# Altium schematic symbol library AHMET_CAN_KARACAN.SchLib: 94 symbols (part 2 of 3)
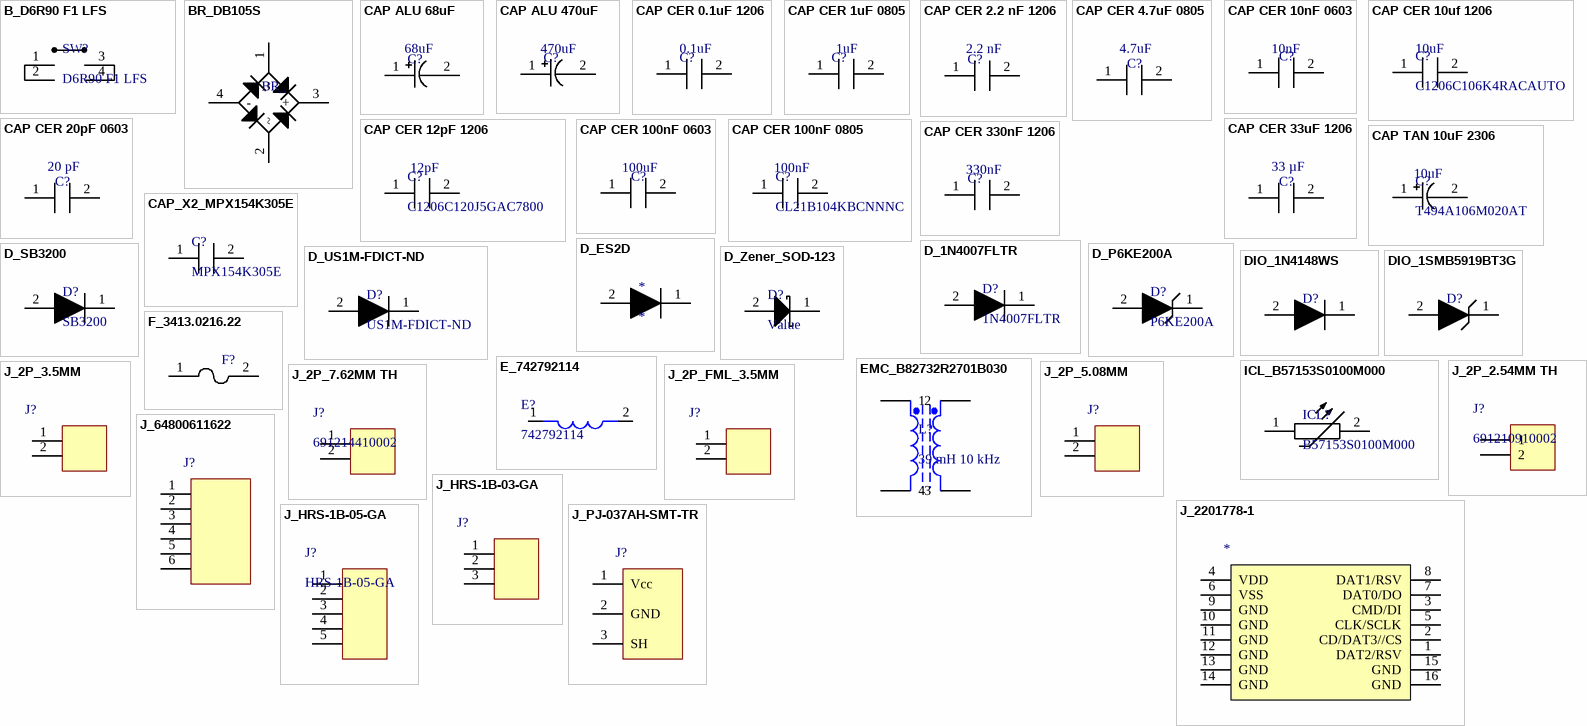
[diagram p3: symbols B_D6R90 F1 LFS to J_PJ-037AH-SMT-TR]

## J_2201778-1
designator *, comment 2201778-1  (value not drawn)
Conn Memory Card RCP 8 POS 1.1mm Solder RA SMD 0.5A/Contact T/R; Manufacturer: TE Connectivity; Underplate Material: Nickel; Number of Positions: 8; Shielding: Unshielded; Contact Current Rating: 500mA; Circuit Application: Signal; Pitch: 0.04inch; Designed By: Ahmet Can; Supplier: Digi-Key; Supplier Part Number: A118117CT-ND; Manufacturer Part Number: 2201778-1; RoHS: Yes; Category: Memory Connectors; Stock: 6669; Pricing: 1=2,81, 10=2,503, 25=2,49, 50=2,4646, 100=2,2614, 250=2,24864, 500=2,04538 (USD); Mounting Technology: Surface Mount; Contact Material: Copper Alloy; Contact Plating: Gold; Housing Color: Black; Color: Black; Housing Material: Polymer; Shell Material: Copper Alloy; Min Operating Temperature: -30°C; Max Operating Temperature: 85°C; Packaging: Tape and Reel; Number of Rows: 1; Series: -; Termination: SMD/SMT; Flammability Rating: UL94 V-0; RoHS Compliant: Yes; Lead Free: Lead Free; ELV: Compliant; Reach SVHC Compliant: Unknown; ComponentLink1URL: https://datasheet.ciiva.com/23834/1737844-23834387.pdf?src-supplier=Newark; ComponentLink1Description: https://datasheet.ciiva.com/23834/1737844-23834387.pdf?src-supplier=Newark; ComponentLink2URL: https://datasheet.ciiva.com/22783/600547-22783409.pdf?src-supplier=Farnell; ComponentLink2Description: https://datasheet.ciiva.com/22783/600547-22783409.pdf?src-supplier=Farnell; ComponentLink3URL: https://datasheet.ciiva.com/22796/1651579-22796241.pdf?src-supplier=Farnell; ComponentLink3Description: https://datasheet.ciiva.com/22796/1651579-22796241.pdf?src-supplier=Farnell; ComponentLink4URL: https://datasheet.ciiva.com/29722/eng-cd-2201778-a-29722873.pdf?src-supplier=Digi-Key; ComponentLink4Description: https://datasheet.ciiva.com/29722/eng-cd-2201778-a-29722873.pdf?src-supplier=Digi-Key; ComponentLink5URL: https://datasheet.ciiva.com/22710/600547-22710877.pdf?src-supplier=Element14; ComponentLink5Description: https://datasheet.ciiva.com/22710/600547-22710877.pdf?src-supplier=Element14; ComponentLink6URL: https://datasheet.ciiva.com/22726/600547-22726299.pdf?src-supplier=Element14; ComponentLink6Description: https://datasheet.ciiva.com/22726/600547-22726299.pdf?src-supplier=Element14; ComponentLink7URL: https://datasheet.ciiva.com/29722/eng-cd-2201778-a-29722874.pdf?src-supplier=Digi-Key; ComponentLink7Description: https://datasheet.ciiva.com/29722/eng-cd-2201778-a-29722874.pdf?src-supplier=Digi-Key
footprint MICRO_SD
pins: 1 DAT2/RSV, 2 CD/DAT3//CS, 3 CMD/DI, 4 VDD, 5 CLK/SCLK, 6 VSS, 7 DAT0/DO, 8 DAT1/RSV, 9 GND, 10 GND, 11 GND, 12 GND, 13 GND, 14 GND, 15 GND, 16 GND

## J_64800611622
designator J?, comment 64800611622  (value not drawn)
WR-WTB Wire-to-Board Connectors 1.50 mm; Manufacturer: Wurth Electronics; Voltage Rating: 50VAC; Current Rating: 1A; Designed By: Ahmet Can; Supplier: Digi-Key; Supplier Part Number: 732-64800611622-ND; Manufacturer Part Number: 64800611622; RoHS: No; Category: Uncategorized; Stock: 904; Pricing: 1=0,42, 50=0,406, 100=0,384, 250=0,361, 500=0,339 (USD); Contact Type: Male Pin; Mounting Type: Through Hole
footprint 6 HOLE CONNECTOR (1.5MM)
pins: 1, 2, 3, 4, 5, 6

## J_HRS-1B-03-GA
designator J?, comment HRS-1B-03-GA  (value not drawn)
3 Position Receptacle Connector 0.050" (1.27mm) Through Hole Gold; Manufacturer: Adam Equipment; Designed By: Ahmet Can; Supplier: Digi-Key; Supplier Part Number: 2057-HRS-1B-03-GA-ND; Manufacturer Part Number: HRS-1B-03-GA; RoHS: No; ComponentLink1Description: Datasheet; ComponentLink1URL: https://www.digikey.com/en/htmldatasheets/production/8372910/0/0/1/datasheet
footprint PINHEADER_1X3_TH
pins: 1, 2, 3

## J_HRS-1B-05-GA
designator J?, comment HRS-1B-05-GA
5 Position Receptacle Connector 0.050" (1.27mm) Through Hole Gold; Manufacturer: Adam Equipment; Designed By: Ahmet Can; Supplier: Digi-Key; Supplier Part Number: 2057-HRS-1B-05-GA-ND; Manufacturer Part Number: HRS-1B-05-GA; RoHS: No; Category: Connectors; Stock: 3003; Pricing: 1=0,36, 10=0,31, 100=0,2413, 500=0,2068, 1000=0,17233, 5000=0,14771, 10000=0,13787 (USD)
footprint PINHEADER_1X5_TH
pins: 1, 2, 3, 4, 5

## J_PJ-037AH-SMT-TR
designator J?, comment PJ-037AH-SMT-TR  (value not drawn)
2.0 x 6.3 mm, 5.0 A, Horizontal, Surface Mount (SMT), Dc Power Jack Connector; Manufacturer: CUI; Number of Conductors: 2; Gender: Male; Shielding: Unshielded; Current Rating: 5A; Voltage Rating: 24V; Insulation Resistance: 100MR; Designed By: Ahmet Can; Supplier: Digi-Key; Supplier Part Number: CP-037AHPJCT-ND; Manufacturer Part Number: PJ-037AH-SMT-TR; RoHS: Yes; Category: Uncategorized; Mounting Technology: Surface Mount,Through Hole; Case/Package: SMD/SMT; Color: Black; Contact Material: Copper; Contact Plating: Nickel; Housing Color: Black; Housing Material: Thermoplastic; Min Operating Temperature: -25°C; Max Operating Temperature: 85°C; Orientation: Horizontal; Package Quantity: 200; Termination: Solder; Connector Type: Jack; Contact Gender: Male; Packaging: Tape and Reel; Flammability Rating: UL94 V-0; ComponentLink1URL: http://www.mouser.com/ds/2/670/pj-037ah-smt-516065.pdf?src-supplier=Mouser; ComponentLink1Description: http://www.mouser.com/ds/2/670/pj-037ah-smt-516065.pdf?src-supplier=Mouser; ComponentLink2URL: https://www.cui.com/product/resource/digikeypdf/pj-037ah-smt-tr.pdf?src-supplier=Digi-Key; ComponentLink2Description: https://www.cui.com/product/resource/digikeypdf/pj-037ah-smt-tr.pdf?src-supplier=Digi-Key; ComponentLink3URL: http://www.cui.com/product/resource/digikeypdf/pj-037ah-smt.pdf?src-supplier=Digi-Key; ComponentLink3Description: http://www.cui.com/product/resource/digikeypdf/pj-037ah-smt.pdf?src-supplier=Digi-Key
footprint JACK
pins: 1 Vcc (power), 2 GND (power), 3 SH

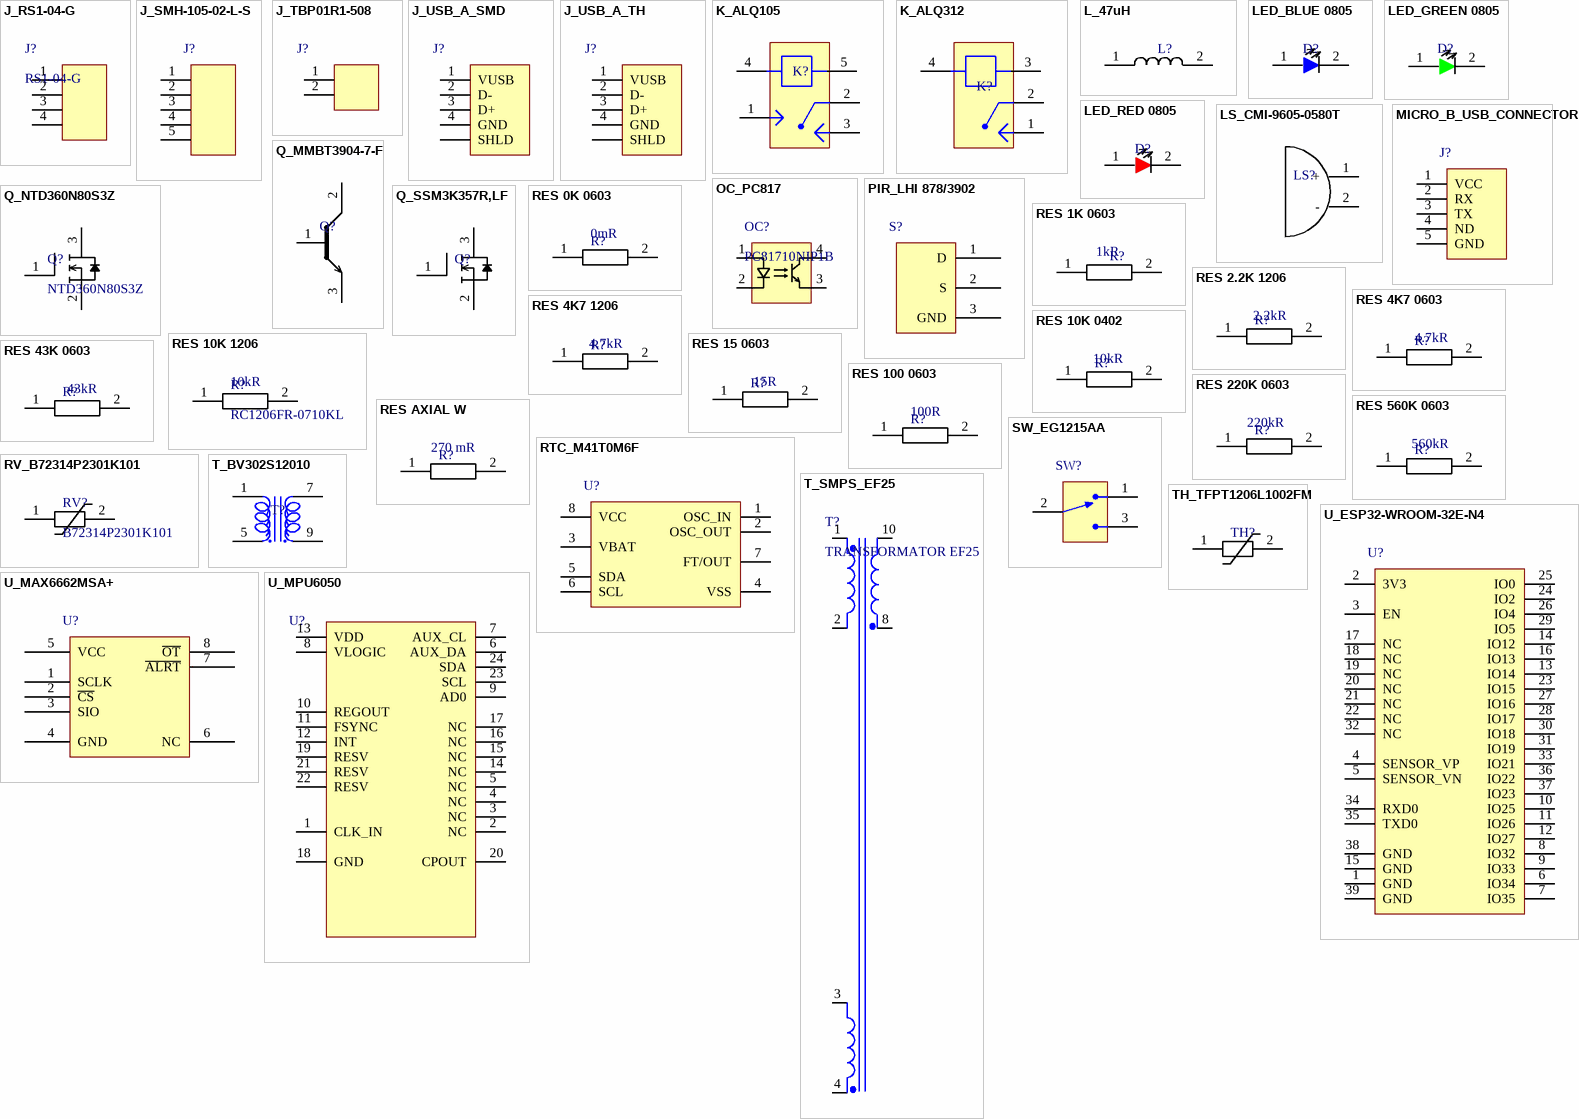
[diagram p1: symbols J_RS1-04-G to U_MPU6050]

## J_RS1-04-G
designator J?, comment RS1-04-G
4 Position Receptacle Connector 0.100" (2.54mm) Through Hole Gold; Manufacturer: Adam Equipment; Supplier: Digi-Key; Supplier Part Number: 2057-RS1-04-G-ND; Manufacturer Part Number: RS1-04-G; RoHS: No; Category: Headers and Wire Housings; Stock: 4500; Pricing: 1=0,31, 10=0,267, 80=0,20788, 800=0,15695, 1600=0,14084, 5600=0,12726, 10400=0,11878 (USD); ComponentLink1URL: https://datasheet.ciiva.com/19462/2169758-19462353.pdf?src-supplier=Jameco; ComponentLink1Description: https://datasheet.ciiva.com/19462/2169758-19462353.pdf?src-supplier=Jameco
footprint PINHEADER_1X4_TH
pins: 1, 2, 3, 4

## J_SMH-105-02-L-S
designator J?, comment SMH-105-02-L-S  (value not drawn)
5 Position Receptacle Connector 0.100" (2.54mm) Surface Mount, Right Angle Gold; Manufacturer: Samtec; Number of Contacts: 5; Designed By: Ahmet Can; Supplier: Digi-Key; Supplier Part Number: SAM11813-ND; Manufacturer Part Number: SMH-105-02-L-S; RoHS: Yes; Category: Connectors; Stock: 47; Pricing: 1=2,18, 10=1,899, 100=1,6968, 500=1,414, 1000=1,212, 5000=1,07464 (USD); Contact Plating: Gold; Contact Material: Bronze; Contact Finish - Mating: GOLD; Insulation Color: Black; Insulation Material: Polymer; Contact Shape: Square; Min Operating Temperature: -55°C; Max Operating Temperature: 125°C; Packaging: Rail/Tube; Number of Rows: 1; Termination: Solder; Gender: Receptacle; Orientation: Horizontal; Connector Type: Receptacle; Fastening Type: Pull; Series: SMH; Contact Type: Forked; Number of Positions: 5; Pitch: 2.54mm; Radiation Hardening: No; RoHS Compliant: Yes; Reach SVHC Compliant: No; Flammability Rating: UL94 V-0; ComponentLink1URL: http://www.farnell.com/datasheets/1927708.pdf?_ga=2.237598468.569325269.1503285096-1413671594.1503025027&src-supplier=Farnell; ComponentLink1Description: http://www.farnell.com/datasheets/1927708.pdf?_ga=2.237598468.569325269.1503285096-1413671594.1503025027&src-supplier=Farnell; ComponentLink2URL: http://www.samtec.com/documents/webfiles/pdf/SMH.PDF?src-supplier=Newark; ComponentLink2Description: http://www.samtec.com/documents/webfiles/pdf/SMH.PDF?src-supplier=Newark; ComponentLink3URL: http://www.samtec.com/documents/webfiles/pdf/SMH.PDF?src-supplier=Avnet; ComponentLink3Description: http://www.samtec.com/documents/webfiles/pdf/SMH.PDF?src-supplier=Avnet; ComponentLink4URL: http://suddendocs.samtec.com/catalog_english/smh.pdf?src-supplier=Digi-Key; ComponentLink4Description: http://suddendocs.samtec.com/catalog_english/smh.pdf?src-supplier=Digi-Key
footprint PINHEADER1X5_RA
pins: 1, 2, 3, 4, 5

## J_TBP01R1-508
designator J?, comment TBP01R1-508  (value not drawn)
2~24 Poles, Pluggable, Receptacle, Horizontal, 5.08 Pitch, Terminal Block Connector; Manufacturer: CUI Devices; Manufacturer Part Number: TBP01R1-508-02BE; Designed By: Ahmet Can; Supplier: Digi-Key; Supplier Part Number: 102-6406-ND; RoHS: Yes; Category: Terminal Blocks; Stock: 121256; Pricing: 1=0,56, 10=0,296, 25=0,2096, 50=0,1784, 100=0,1722, 250=0,1456, 500=0,13464, 1000=0,11898, 5000=0,0908 (USD); ComponentLink1URL: https://www.cuidevices.com/product/resource/digikeypdf/tbp01r1-508.pdf?src-supplier=Digi-Key; ComponentLink1Description: https://www.cuidevices.com/product/resource/digikeypdf/tbp01r1-508.pdf?src-supplier=Digi-Key; ComponentLink2URL: https://datasheet.octopart.com/TBP01R1-508-02BE-CUI-Devices-datasheet-147843976.pdf?src-supplier=Future+Electronics; ComponentLink2Description: https://datasheet.octopart.com/TBP01R1-508-02BE-CUI-Devices-datasheet-147843976.pdf?src-supplier=Future+Electronics; ComponentLink3URL: https://datasheet.octopart.com/TBP01R1-508-02BE-CUI-Devices-datasheet-154730754.pdf?src-supplier=Electro+Sonic; ComponentLink3Description: https://datasheet.octopart.com/TBP01R1-508-02BE-CUI-Devices-datasheet-154730754.pdf?src-supplier=Electro+Sonic
footprint 2P_5.08MM_MALE_CONN
pins: 1, 2

## J_USB_A_SMD
designator J?, comment 87583-2010RLF  (value not drawn)
USB-A (USB TYPE-A) USB 2.0 Receptacle Connector 4 Position Surface Mount, RA; Manufacturer: Amphenol ICC / FCI; Plating: Nickel; Connector Type: USB,Receptacle; Number of Contacts: 4; Number of Ports: 1; Designed By: Ahmet Can; Supplier: Digi-Key; Supplier Part Number: 609-5390-1-ND; Manufacturer Part Number: 87583-2010RLF; RoHS: Yes; Category: Connectors; Stock: 22222; Pricing: 1=1,08, 10=0,908, 25=0,8712, 50=0,8528, 100=0,8157 (USD); Mounting Technology: Surface Mount,Horizontal; Contact Material: Copper Alloy; Color: White; Contact Plating: GXT; Housing Material: Thermoplastic; Packaging: Tape and Reel; Package Quantity: 250; Gender: Receptacle; Number of Positions: 4; Termination: Solder; Orientation: Right Angle; Series: 87583; Length: 14.5mm; Depth: 14mm; Radiation Hardening: No; Flammability Rating: UL94 V-0; RoHS Compliant: Yes; ComponentLink1URL: https://datasheet.ciiva.com/3095/87583-3095132.pdf?src-supplier=Avnet; ComponentLink1Description: https://datasheet.ciiva.com/3095/87583-3095132.pdf?src-supplier=Avnet
footprint USB_A_SMD
pins: 1 VUSB (power), 2 D-, 3 D+, 4 GND, SHLD

## J_USB_A_TH
designator J?, comment 6364372-2  (value not drawn)
Conn USB 2.0 Type A RCP 4 POS Solder RA Thru-Hole 4 Terminal 1 Port Box/Tube; Manufacturer: TE Connectivity; Supplier: Digi-Key; Supplier Part Number: A122647-ND; Manufacturer Part Number: 6364372-2; RoHS: Yes; Category: Audio / Video Connectors; Stock: 46421; Pricing: 1=1,44, 10=1,345, 25=1,2944, 50=1,282, 100=1,157, 250=1,11944, 500=1,01938, 1000=0,91307, 2500=0,85053 (USD); ComponentLink1URL: https://datasheet.ciiva.com/851/eng-cd-6364372-a-851572.pdf?src-supplier=Digi-Key; ComponentLink1Description: https://datasheet.ciiva.com/851/eng-cd-6364372-a-851572.pdf?src-supplier=Digi-Key
footprint USB_A_TH
pins: 1 VUSB (power), 2 D-, 3 D+, 4 GND, SHLD

## K_ALQ105
designator K?, comment ALQ105  (value not drawn)
Power Relay 5VDC 10(NO)/3(NC)A SPDT(20mm 10mm 16mm) THT; Manufacturer: Panasonic; Designed By: Ahmet Can; Current Rating: 10A; Switching Voltage: 150 VAC; Coil Current: 80 mA; Supplier: Digi-Key; Supplier Part Number: 255-3565-ND; Manufacturer Part Number: ALQ105; RoHS: Yes; Category: Power Relays, Over 2 Amps; Stock: 75915; Pricing: 1=1,28, 10=1,204, 25=1,0704, 50=1,017, 100=0,9635, 250=0,85648, 500=0,80296, 1000=0,74942, 5000=0,72266 (USD); ComponentLink1URL: https://media.digikey.com/pdf/Data%20Sheets/Panasonic%20Electric%20Works%20PDFs/ALQ(LQ)Relays_NewProdIntro.pdf?src-supplier=Digi-Key; ComponentLink1Description: https://media.digikey.com/pdf/Data%20Sheets/Panasonic%20Electric%20Works%20PDFs/ALQ(LQ)Relays_NewProdIntro.pdf?src-supplier=Digi-Key; ComponentLink2URL: http://www.farnell.com/datasheets/2245159.pdf?src-supplier=Farnell; ComponentLink2Description: http://www.farnell.com/datasheets/2245159.pdf?src-supplier=Farnell; ComponentLink3URL: http://www.alliedelec.com/m/d/b3e6213128df2023f710f2e9cac83292.pdf?src-supplier=Allied+Electronics; ComponentLink3Description: http://www.alliedelec.com/m/d/b3e6213128df2023f710f2e9cac83292.pdf?src-supplier=Allied+Electronics; ComponentLink4URL: http://www.mouser.com/ds/2/315/lq-catalog-1075796.pdf?src-supplier=Mouser; ComponentLink4Description: http://www.mouser.com/ds/2/315/lq-catalog-1075796.pdf?src-supplier=Mouser; ComponentLink5URL: https://datasheet.octopart.com/ALQ105-Panasonic-datasheet-45185651.pdf?src-supplier=Future+Electronics; ComponentLink5Description: https://datasheet.octopart.com/ALQ105-Panasonic-datasheet-45185651.pdf?src-supplier=Future+Electronics; ComponentLink6URL: https://datasheet.octopart.com/ALQ105-Panasonic-datasheet-21211495.pdf?src-supplier=Newark; ComponentLink6Description: https://datasheet.octopart.com/ALQ105-Panasonic-datasheet-21211495.pdf?src-supplier=Newark; ComponentLink7URL: https://datasheet.octopart.com/ALQ105-Panasonic-datasheet-78834688.pdf?src-supplier=Element14; ComponentLink7Description: https://datasheet.octopart.com/ALQ105-Panasonic-datasheet-78834688.pdf?src-supplier=Element14; ComponentLink8URL: http://www.farnell.com/datasheets/2245159.pdf?src-supplier=Newark; ComponentLink8Description: http://www.farnell.com/datasheets/2245159.pdf?src-supplier=Newark; ComponentLink9URL: https://datasheet.octopart.com/ALQ105-Panasonic-datasheet-151511680.pdf?src-supplier=Master+Electronics; ComponentLink9Description: https://datasheet.octopart.com/ALQ105-Panasonic-datasheet-151511680.pdf?src-supplier=Master+Electronics; Case/Package: ALQ; Min Operating Temperature: -40°C; Max Operating Temperature: 85°C; Packaging: Box
footprint ALQ1
pins: 1, 2, 3, 4, 5

## K_ALQ312
designator K?, comment ALQ312  (value not drawn)
Electromechanical Relay 12VDC 720Ohm 10(NO)/3(NC)A SPST-NO (( 20mm 10mm 16mm)) THT Power Relay; Manufacturer: Panasonic; Contact Current Rating: 10A; Voltage Rating (AC): 250V; Power Rating: 200mW; Throw Configuration: SPST; Coil Resistance: 720R; Coil Current: 16.7mA; Operate Time: 20ms; Coil Voltage (DC): 12V; Coil Type: Non-Latching; Relay Type: General Purpose; Desigend By: Ahmet Can; Supplier: Digi-Key; Supplier Part Number: 255-3556-ND; Manufacturer Part Number: ALQ312; RoHS: Yes; Category: Power Relays; Stock: 67957; Pricing: 1=1,12, 10=1,045, 25=0,9292, 50=0,8828, 100=0,8363, 250=0,74336, 500=0,6969, 1000=0,65044, 5000=0,62721 (USD); Pins: 4; Contact Material: Silver; Weight: 7g; Min Operating Temperature: -40°C; Max Operating Temperature: 85°C; Package Quantity: 100; Packaging: Carton; Power Consumption: 200mW; Termination: PC Pin; Release Time: 20ms; Max Voltage Rating (AC): 250V; Series: ALQ; Length: 20mm; Width: 10mm; Height: 16mm; Depth: 10mm; Radiation Hardening: No; Lead Free: Lead Free; RoHS Compliant: Yes; Reach SVHC Compliant: Unknown; ComponentLink1URL: https://datasheet.ciiva.com/26882/getdatasheetpartid-697597-26882626.pdf?src-supplier=Verical; ComponentLink1Description: https://datasheet.ciiva.com/26882/getdatasheetpartid-697597-26882626.pdf?src-supplier=Verical; ComponentLink2URL: https://datasheet.ciiva.com/24313/307ds-61b20-en-lq-24313178.pdf?src-supplier=Onlinecomponents.com; ComponentLink2Description: https://datasheet.ciiva.com/24313/307ds-61b20-en-lq-24313178.pdf?src-supplier=Onlinecomponents.com; ComponentLink3URL: https://datasheet.ciiva.com/23833/1732003-23833351.pdf?src-supplier=Newark; ComponentLink3Description: https://datasheet.ciiva.com/23833/1732003-23833351.pdf?src-supplier=Newark
footprint ALQ3
pins: 1, 2, 3, 4

## L_47uH
designator L?, comment 78438335470  (value not drawn)
Power Inductor, Aec-Q200, 47Uh, 0.39A Rohs Compliant: Yes |Wurth Elektronik 78438335470; Manufacturer: Wurth Electronics; Core Material: Ferrite; Current Rating: 390mA; Saturation Current: 1.18A; Shielding: Shielded; DC Resistance (DCR): 2.3R; Self Resonant Frequency: 8MHz; Test Frequency: 100kHz; Tolerance: 30%; Designed By: Ahmet Can; Supplier: Digi-Key; Supplier Part Number: 732-6947-1-ND; Manufacturer Part Number: 78438335470; RoHS: Yes; Category: Fixed Inductors; Stock: 14869; Pricing: 1=2,11, 50=1,97, 250=1,803, 500=1,672 (USD); Mounting Technology: Surface Mount; Case/Package: 1212; Case Code (Metric): 3030; Case Code (Imperial): 1212; Min Operating Temperature: -40°C; Max Operating Temperature: 125°C; Packaging: Cut Tape; Value: 47uH; Series: WE-MAIA; Length: 0.118inch; Width: 0.118inch; Height - Seated (Max): 0.059inch; Ratings: AEC-Q200; RoHS Compliant: Yes; ComponentLink1URL: https://media.digikey.com/pdf/Data%20Sheets/Wurth%20Electronics%20PDFs/Q+_Products_Flyer.pdf?src-supplier=Digi-Key; ComponentLink1Description: https://media.digikey.com/pdf/Data%20Sheets/Wurth%20Electronics%20PDFs/Q+_Products_Flyer.pdf?src-supplier=Digi-Key
footprint IND_1212
pins: 1, 2

## LED_BLUE 0805
designator D?, comment 0805BBD8100S01  (value not drawn)
Blue 467nm LED Indication - Discrete 2.6V 0805 (2012 Metric); Manufacturer: BNDLIGHT; Viewing Angle: 120°; Test Current: 20mA; Millicandela Rating: 105mcd; Lens Transparency: Diffused; Lens Color: Colorless; Peak Wavelength: 475nm; Designed By: Ahmet Can; Manufacturer Product Number: 0805BBD8100S01; Forward Voltage: 2.6V; Dominant Wavelength: 467nm; Case/Package: 0805
footprint LED_BLUE_0805
pins: 1, 2

## LED_GREEN 0805
designator D?, comment LTST-C171GKT  (value not drawn)
Green 569nm LED Indication - Discrete 2.1V 0805 (2012 Metric); Manufacturer: Lite-On Inc.; Viewing Angle: 130°; Test Current: 20mA; Millicandela Rating: 12mcd; Lens Transparency: Clear; Lens Color: Colorless; Designed By: Ahmet Can; Dominant Wavelength: 645nm; Peak Wavelength: 660nm; Manufacturer Product Number: LTST-C171GKT; Supplier: Digi-Key; Supplier Part Number: 160-1423-2-ND; Forward Voltage: 2.1V; Case/Package: 0805
footprint LED_GREEN_0805
pins: 1, 2

## LED_RED 0805
designator D?, comment HSMC-C170  (value not drawn)
Red 626nm LED Indication - Discrete 1.9V 0805 (2012 Metric); Manufacturer: Broadcom Avago; Designed By: Ahmet Can; Peak Wavelength: 637nm; Viewing Angle: 170°; Test Current: 20mA; Lens Transparency: Diffused; Lens Color: White; Millicandela Rating: 90mcd; Supplier: Digi-Key; Supplier Part Number: 516-1428-1-ND; Manufacturer Part Number: HSMC-C170; RoHS: Yes; Category: LEDs; Stock: 69370; Pricing: 1=0,62, 10=0,38, 100=0,2184, 1000=0,17089, 2000=0,15665 (USD); Dominant Wavelength: 626nm; Case/Package: 0805; Forward Voltage: 1.9V
footprint LED_RED_0805
pins: 1, 2

## LS_CMI-9605-0580T
designator LS?, comment CMI-9605-0580T  (value not drawn)
9.6 mm, 5 Vdc, 80 dB, Through Hole, Driving Circuit, Magnetic Audio Indicator Buzzer; Manufacturer: CUI; Designed By: Ahmet Can; Min Supply Voltage: 3V; Max Supply Voltage: 7V; SPL: 80dB @ 5V, 10cm; Nominal Supply Voltage: 5V; Frequency: 2.7kHz; Supply Current: 30mA; Supplier: Digi-Key; Supplier Part Number: 102-CMI-9605-0580T-ND; Manufacturer Part Number: CMI-9605-0580T; RoHS: No; Max Operating Temperature: 70°C; Min Operating Temperature: -30°C; Mounting Technology: Through Hole; Packaging: Box; Case/Package: CMI-9605; Voltage Rating: 5V
footprint CMI-9605
pins: 1 +, 2 -

## MICRO_B_USB_CONNECTOR
designator J?, comment 10118192-0001LF  (value not drawn)
CONN USB MICRO B RECPT SMT R/A; Manufacturer: Amphenol ICC / FCI; Gender: Receptacle; Connector Type: USB,Receptacle; USB Standard: USB 2.0; Number of Contacts: 5; Current Rating: 1.8A; Insulation Resistance: 1GR; Number of Ports: 1; Max Voltage Rating (AC): 100V; Pitch: 0.65mm; Designed By: Ahmet Can; Supplier: Digi-Key; Supplier Part Number: 609-4613-1-ND; Manufacturer Part Number: 10118192-0001LF; RoHS: No; Category: Uncategorized; Stock: 102334; Pricing: 1=0,46, 10=0,404, 25=0,3696, 50=0,3478, 100=0,3334, 250=0,30436, 500=0,28988 (USD); Mounting Technology: Surface Mount,Horizontal; Pins: 5; Color: Black; Contact Material: Copper Alloy; Contact Plating: Gold; Housing Material: Polymer; Min Operating Temperature: -55°C; Max Operating Temperature: 85°C; Orientation: Right Angle; Termination: Solder; Features: Shielded; Voltage Rating: 100V; Series: -; Packaging: Tape and Reel; Package Quantity: 1400; Length: 7.86mm; Depth: 5.57mm; Radiation Hardening: No; Flammability Rating: UL94 V-0; Reach SVHC Compliant: No; ComponentLink1URL: http://uk.rs-online.com/webdocs/1450/0900766b814507ee.pdf?src-supplier=Rs; ComponentLink1Description: http://uk.rs-online.com/webdocs/1450/0900766b814507ee.pdf?src-supplier=Rs; ComponentLink2URL: https://cdn.amphenol-icc.com/media/wysiwyg/files/documentation/datasheet/inputoutput/io_usb_micro.pdf?src-supplier=Verical; ComponentLink2Description: https://cdn.amphenol-icc.com/media/wysiwyg/files/documentation/datasheet/inputoutput/io_usb_micro.pdf?src-supplier=Verical; ComponentLink3URL: https://cdn.amphenol-icc.com/media/wysiwyg/files/documentation/datasheet/inputoutput/io_usb_micro.pdf?src-supplier=Allied+Electronics; ComponentLink3Description: https://cdn.amphenol-icc.com/media/wysiwyg/files/documentation/datasheet/inputoutput/io_usb_micro.pdf?src-supplier=Allied+Electronics; ComponentLink4URL: http://www.farnell.com/datasheets/2366786.pdf?src-supplier=Newark; ComponentLink4Description: http://www.farnell.com/datasheets/2366786.pdf?src-supplier=Newark; ComponentLink5URL: https://cdn.amphenol-icc.com/media/wysiwyg/files/documentation/datasheet/inputoutput/io_usb_micro.pdf?src-supplier=Mouser; ComponentLink5Description: https://cdn.amphenol-icc.com/media/wysiwyg/files/documentation/datasheet/inputoutput/io_usb_micro.pdf?src-supplier=Mouser; ComponentLink6URL: http://www.amphenol-icc.com/media/wysiwyg/files/drawing/10118192.pdf?src-supplier=Digi-Key; ComponentLink6Description: http://www.amphenol-icc.com/media/wysiwyg/files/drawing/10118192.pdf?src-supplier=Digi-Key; ComponentLink7URL: https://datasheet.octopart.com/10118192-0001LF-Amphenol-Communications-Solutions-datasheet-96019471.pdf?src-supplier=Element14; ComponentLink7Description: https://datasheet.octopart.com/10118192-0001LF-Amphenol-Communications-Solutions-datasheet-96019471.pdf?src-supplier=Element14; ComponentLink8URL: http://www.farnell.com/datasheets/2366786.pdf?src-supplier=Farnell; ComponentLink8Description: http://www.farnell.com/datasheets/2366786.pdf?src-supplier=Farnell; ComponentLink9URL: http://www.farnell.com/cad/1935767.pdf?src-supplier=Element14; ComponentLink9Description: http://www.farnell.com/cad/1935767.pdf?src-supplier=Element14; ComponentLink10URL: https://cdn.amphenol-icc.com/media/wysiwyg/files/documentation/datasheet/inputoutput/io_usb_micro.pdf?src-supplier=Arrow+Electronics; ComponentLink10Description: https://cdn.amphenol-icc.com/media/wysiwyg/files/documentation/datasheet/inputoutput/io_usb_micro.pdf?src-supplier=Arrow+Electronics; ComponentLink11URL: https://cdn.amphenol-icc.com/media/wysiwyg/files/documentation/datasheet/inputoutput/io_usb_micro.pdf?src-supplier=Avnet; ComponentLink11Description: https://cdn.amphenol-icc.com/media/wysiwyg/files/documentation/datasheet/inputoutput/io_usb_micro.pdf?src-supplier=Avnet; ComponentLink12URL: https://cdn.amphenol-icc.com/media/wysiwyg/files/documentation/datasheet/inputoutput/io_usb_micro.pdf?src-supplier=TME; ComponentLink12Description: https://cdn.amphenol-icc.com/media/wysiwyg/files/documentation/datasheet/inputoutput/io_usb_micro.pdf?src-supplier=TME; ComponentLink13URL: https://cdn.amphenol-icc.com/media/wysiwyg/files/documentation/datasheet/inputoutput/io_usb_micro.pdf?src-supplier=TTI; ComponentLink13Description: https://cdn.amphenol-icc.com/media/wysiwyg/files/documentation/datasheet/inputoutput/io_usb_micro.pdf?src-supplier=TTI; ComponentLink14URL: https://cdn.amphenol-icc.com/media/wysiwyg/files/documentation/datasheet/inputoutput/io_usb_micro.pdf?src-supplier=NAC+Semi; ComponentLink14Description: https://cdn.amphenol-icc.com/media/wysiwyg/files/documentation/datasheet/inputoutput/io_usb_micro.pdf?src-supplier=NAC+Semi; ComponentLink15URL: https://cdn.amphenol-icc.com/media/wysiwyg/files/documentation/datasheet/inputoutput/io_usb_micro.pdf?src-supplier=SOS+electronic; ComponentLink15Description: https://cdn.amphenol-icc.com/media/wysiwyg/files/documentation/datasheet/inputoutput/io_usb_micro.pdf?src-supplier=SOS+electronic; ComponentLink16URL: https://datasheet.octopart.com/10118192-0001LF-Amphenol-Communications-Solutions-datasheet-55953129.pdf?src-supplier=Electro+Sonic; ComponentLink16Description: https://datasheet.octopart.com/10118192-0001LF-Amphenol-Communications-Solutions-datasheet-55953129.pdf?src-supplier=Electro+Sonic; ComponentLink17URL: https://cdn.amphenol-icc.com/media/wysiwyg/files/documentation/datasheet/inputoutput/io_usb_micro.pdf?src-supplier=Freelance+Electronics; ComponentLink17Description: https://cdn.amphenol-icc.com/media/wysiwyg/files/documentation/datasheet/inputoutput/io_usb_micro.pdf?src-supplier=Freelance+Electronics; ComponentLink18URL: https://cdn.amphenol-icc.com/media/wysiwyg/files/documentation/datasheet/inputoutput/io_usb_micro.pdf?src-supplier=Heilind+Electronics; ComponentLink18Description: https://cdn.amphenol-icc.com/media/wysiwyg/files/documentation/datasheet/inputoutput/io_usb_micro.pdf?src-supplier=Heilind+Electronics
footprint MICRO_B_USB
pins: 1 VCC (power), 2 RX, 3 TX, 4 ND, 5 GND

## OC_PC817
designator OC?, comment PC81710NIP1B
Optocoupler 1-CH Open Collector 5000Vrms 4-Pin DIP SMD T/R; Manufacturer: Socle Technology; Designed By: Ahmet Can; Max Saturation Vce: 200 mW; DC Forward Current: 10 mA; Forward Voltage: 1.2 V; Output Channel Current: 50 mA; Max Output Voltage: 80 V; Output Type: Transistor; Input Type: DC; Max Current Transfer Ratio: 600% @ 500µA; Min Current Transfer Ratio: 100% @ 500µA; Supplier: Digi-Key; Supplier Part Number: 1855-1014-1-ND; Manufacturer Part Number: PC81710NIP1B; RoHS: No; Category: Optocouplers; Stock: 12843; Pricing: 1=1, 10=0,636, 100=0,4705, 500=0,43234, 1000=0,35605 (USD); Isolation Voltage: 5000Vrms; Case/Package: 4-SMD, Gull Wing
footprint 4-SMD, Gull Wing
pins: 1 A, 2 K, 3 E, 4 C

## PIR_LHI 878/3902
designator S?, comment LHI 878/3902  (value not drawn)
Sensor PIR (Passive Infrared) TO-205AA, TO-5-3 Metal Can; Manufacturer: Excelitas Technologies; Designed By: Ahmet Can; Max Supply Voltage: 12V; Min Supply Voltage: 2V; Output Type: Analog; Type: PIR; Supplier: Digikey; Supplier Part Number: 1601-LHI878/3902-ND; Case/Package: LHI; Manufacturer Product Number: LHI 878/3902
footprint LHI 878/3902
pins: 1 D, 2 S, 3 GND

## Q_MMBT3904-7-F
designator Q?, comment MMBT3904-7-F  (value not drawn)
Transistor General Purpose BJT NPN 40 Volt 0.2A Automotive 3-Pin SOT-23-3; Manufacturer: Diodes Zetex; Max Power Dissipation: 300mW; Collector Emitter Voltage (VCEO): 40V; Max Collector Current: 200mA; Collector Base Voltage (VCBO): 60V; Power Dissipation: 350mW; Frequency: 300MHz; hFE Min: 100; Number of Elements: 1; Emitter Base Voltage (VEBO): 6V; Collector Emitter Saturation Voltage: 300mV; Designed By: Ahmet Can; Supplier: Digi-Key; Supplier Part Number: MMBT3904-FDICT-ND; Manufacturer Part Number: MMBT3904-7-F; RoHS: Yes; Category: BJTs; Stock: 5948624; Pricing: 1=0,12, 10=0,111, 100=0,0607, 500=0,03732, 1000=0,02545 (USD); Mounting Technology: Surface Mount; Case/Package: SOT-23; Pins: 3; Weight: 0.000282oz; Min Operating Temperature: -55°C; Max Operating Temperature: 150°C; Polarity: NPN; Packaging: Tape and Reel; Voltage Rating (DC): 40V; Package Quantity: 3000; Transition Frequency: 300MHz; Collector Emitter Breakdown Voltage: 40V; Max Breakdown Voltage: 40V; Continuous Collector Current: 200mA; Clock Frequency: 300MHz; Gain Bandwidth Product: 300MHz; Series: Automotive, AEC-Q101; Collector-emitter Voltage-Max: 300mV; Length: 3.05mm; Width: 1.4mm; Height: 1mm; Radiation Hardening: No; Reach SVHC Compliant: No; Lead Free: Lead Free; RoHS Compliant: Yes; ComponentLink1URL: https://datasheet.ciiva.com/11201/ds30036-11201778.pdf?src-supplier=Avnet; ComponentLink1Description: https://datasheet.ciiva.com/11201/ds30036-11201778.pdf?src-supplier=Avnet; ComponentLink2URL: https://datasheet.ciiva.com/15138/getdatasheetpartid-53265-15138780.pdf?src-supplier=Verical; ComponentLink2Description: https://datasheet.ciiva.com/15138/getdatasheetpartid-53265-15138780.pdf?src-supplier=Verical; ComponentLink3URL: https://datasheet.ciiva.com/22711/1915516-22711750.pdf?src-supplier=Element14; ComponentLink3Description: https://datasheet.ciiva.com/22711/1915516-22711750.pdf?src-supplier=Element14; ComponentLink4URL: https://datasheet.ciiva.com/11198/ds30036-11198999.pdf?src-supplier=Avnet; ComponentLink4Description: https://datasheet.ciiva.com/11198/ds30036-11198999.pdf?src-supplier=Avnet; ComponentLink5URL: https://datasheet.ciiva.com/6361/ds30036-6361256.pdf?src-supplier=Digi-Key; ComponentLink5Description: https://datasheet.ciiva.com/6361/ds30036-6361256.pdf?src-supplier=Digi-Key; ComponentLink6URL: https://datasheet.ciiva.com/6361/ds30036-6361254.pdf?src-supplier=Digi-Key; ComponentLink6Description: https://datasheet.ciiva.com/6361/ds30036-6361254.pdf?src-supplier=Digi-Key
footprint SOT_23_3
pins: 1, 2, 3

## Q_NTD360N80S3Z
designator Q?, comment NTD360N80S3Z
MOSFET – Power, N-Channel, SUPERFET® III, 800 V, 13 A, 360 mΩ, DPAK; Manufacturer: ON Semiconductor; Designed By: Ahmet Can; Max Vgs: ±20V; Max Power Dissipation: 96 W; Continuous Drain Curreny (Id): 13 A @ 25°C; Drive Voltage: 10 V; Vdss: 800 V; FET Type: N Channel; Supplier: Digi-Key; Supplier Part Number: 488-NTD360N80S3ZDKR-ND; Manufacturer Part Number: NTD360N80S3Z; RoHS: Yes; Category: MOSFETs; Pricing: 1=2,74, 10=2,304, 100=1,8638, 500=1,65672, 1000=1,41857 (USD); Case/Package: D-PAK (TO-252)
footprint DPAK_TO-252-3 (D-PAK, 3-Pads, Body 6,15x6,61mm (max), IPC Medium Density)
pins: 1, 2, 3

## Q_SSM3K357R,LF
designator Q?, comment SSM3K357R,LF  (value not drawn)
Trans MOSFET N-CH Si 60V 0.65A Automotive 3-Pin SOT-23F T/R; Manufacturer: Toshiba; FET Type: N-Channel; Designed By: Ahmet Can; Drive Voltage: 3V, 5V; Max Vgs: ±12V; Input Capacitance: 60 pF @ 12 V; Rds On (Max) @ Id, Vgs: 1.8Ohm @ 150mA, 5V; Vgs(th) (Max) @ Id: 2V @ 1mA; Supplier: Digi-Key; Supplier Part Number: SSM3K357RLFCT-ND; Manufacturer Part Number: SSM3K357R,LF; RoHS: No; Stock: 73999; Pricing: 1=0,38, 10=0,295, 100=0,1773, 500=0,16412, 1000=0,1116 (USD); ComponentLink1URL: https://toshiba.semicon-storage.com/info/docget.jsp?did=59207&prodName=SSM3K357R&src-supplier=Digi-Key; ComponentLink1Description: https://toshiba.semicon-storage.com/info/docget.jsp?did=59207&prodName=SSM3K357R&src-supplier=Digi-Key; Case/Package: SOT-23F; Category: Single FETs, MOSFETs; Mounting Technology: Surface Mount; Id: 0.65A; Vdss: 60V
footprint SOT_23F
pins: 1, 2, 3

## RES 0K 0603
designator R?, comment value 0mR  (hidden comment: RC0603JR-070RL)
Zero Ohm Resistor, Jumper, 0603 [1608 Metric], Thick Film, 100 mW, 1 A, Surface Mount; Manufacturer: Yageo; Tolerance: 1%; Power Rating: 100mW; Voltage Rating (DC): 50V; Temperature Coefficient: 200ppm/°C; Resistance Tolerance: 5%; Designed By: Ahmet Can; Supplier: Digi-Key; Supplier Part Number: 311-0.0GRCT-ND; Manufacturer Part Number: RC0603JR-070RL; RoHS: Yes; Category: Chip SMD Resistors; Stock: 5815021; Pricing: 1=0,1, 10=0,016, 25=0,0112, 50=0,0086, 100=0,0063, 250=0,0048, 500=0,00386, 1000=0,00284 (USD); Case/Package: 0603; Pins: 2; Contact Plating: Tin,Matte; Case Code (Imperial): 0603; Case Code (Metric): 1608; Min Operating Temperature: -55°C; Max Operating Temperature: 155°C; Resistor Type: Thick Film; Packaging: Tape and Reel; Termination: SMD/SMT; Series: RC; Technology: THICK FILM; Package Quantity: 5000; Voltage Rating: 50V; Features: Moisture Resistant; Max Power Dissipation: 100mW; Number of Terminations: 2; Construction: Rectangular; Length: 1.6mm; Width: 0.8mm; Height: 0.45mm; Depth: 0.8mm; Lead Free: Lead Free; RoHS Compliant: Yes; Reach SVHC Compliant: Unknown; Military Standard: Not
footprint RE_0603
pins: 1, 2

## RES 1K 0603
designator R?, comment value 1kR  (hidden comment: RC0402FR-071KL)
SMD Chip Resistor, 1 kOhm, ± 1%, 63 mW, 0402 [1005 Metric], Thick Film, General Purpose; Manufacturer: Yageo; Temperature Coefficient: 100ppm/°C; Voltage Rating (DC): 50V; Power Rating: 62.5mW; Max Power Dissipation: 63mW; Designed By: Ahmet Can; ComponentLink6URL: https://datasheet.ciiva.com/15189/getdatasheetpartid-409289-15189591.pdf?src-supplier=Verical; ComponentLink6Description: https://datasheet.ciiva.com/15189/getdatasheetpartid-409289-15189591.pdf?src-supplier=Verical; Supplier: Digi-Key; Supplier Part Number: 311-1.00KLRCT-ND; Manufacturer Part Number: RC0402FR-071KL; RoHS: Yes; Category: Chip SMD Resistors; Stock: 23618166; Pricing: 1=0,1, 10=0,014, 50=0,0084, 100=0,007, 500=0,00464, 1000=0,00396, 5000=0,00282 (USD); Case/Package: 0402; Pins: 2; Case Code (Imperial): 0402; Case Code (Metric): 1005; Min Operating Temperature: -55°C; Max Operating Temperature: 155°C; Resistor Type: Thick Film; Tolerance: 1%; Packaging: Tape and Reel; Voltage Rating: 50V; Termination: SMD/SMT; Features: Moisture Resistant; Series: RC; Number of Terminations: 2; Resistance Tolerance: 1%; Construction: Rectangular; Technology: THICK FILM; Voltage Rating (AC): 50V; Length: 1mm; Width: 0.5mm; Height: 0.32mm; Depth: 0.5mm; Reach SVHC Compliant: No; Lead Free: Lead Free; RoHS Compliant: Yes; Military Standard: Not; ComponentLink1URL: https://datasheet.ciiva.com/11819/0900766b80c66297-11819477.pdf?src-supplier=Rs; ComponentLink1Description: https://datasheet.ciiva.com/11819/0900766b80c66297-11819477.pdf?src-supplier=Rs; ComponentLink2URL: https://datasheet.ciiva.com/7983/1018594-7983502.pdf?src-supplier=Element14; ComponentLink2Description: https://datasheet.ciiva.com/7983/1018594-7983502.pdf?src-supplier=Element14; ComponentLink3URL: https://datasheet.ciiva.com/22747/1018594-22747513.pdf?src-supplier=Element14; ComponentLink3Description: https://datasheet.ciiva.com/22747/1018594-22747513.pdf?src-supplier=Element14; ComponentLink4URL: https://datasheet.ciiva.com/12666/pyu-rc0402-51-rohs-l-6-r-12666741.pdf?src-supplier=Mouser; ComponentLink4Description: https://datasheet.ciiva.com/12666/pyu-rc0402-51-rohs-l-6-r-12666741.pdf?src-supplier=Mouser; ComponentLink5URL: https://datasheet.ciiva.com/7849/1018594-7849869.pdf?src-supplier=Element14; ComponentLink5Description: https://datasheet.ciiva.com/7849/1018594-7849869.pdf?src-supplier=Element14; ComponentLink7URL: https://datasheet.ciiva.com/7849/1018594-7849871.pdf?src-supplier=Element14; ComponentLink7Description: https://datasheet.ciiva.com/7849/1018594-7849871.pdf?src-supplier=Element14; ComponentLink8URL: https://datasheet.ciiva.com/17063/pyu-rc0402-51-rohs-l-6-r-17063193.pdf?src-supplier=Future+Electronics; ComponentLink8Description: https://datasheet.ciiva.com/17063/pyu-rc0402-51-rohs-l-6-r-17063193.pdf?src-supplier=Future+Electronics
footprint RE_0603
pins: 1, 2

## RES 2.2K 1206
designator R?, comment value 2.2kR  (hidden comment: RC1206FR-072K2L)
SMD Chip Resistor, 2.2 kOhm, ± 1%, 250 mW, 1206 [3216 Metric], Thick Film, General Purpose; Manufacturer: Yageo; Power Rating: 250mW; Temperature Coefficient: 100ppm/°C; Voltage Rating: 200V; Designed By: Ahmet Can; Supplier: Digi-Key; Supplier Part Number: 311-2.20KFRCT-ND; Manufacturer Part Number: RC1206FR-072K2L; RoHS: Yes; Category: Chip SMD Resistors; Stock: 108156; Pricing: 1=0,1, 10=0,036, 50=0,0232, 100=0,0195, 500=0,01364, 1000=0,01187 (USD); Case/Package: 1206; Case Code (Metric): 3216; Case Code (Imperial): 1206; Weight: 0.000571oz; Min Operating Temperature: -55°C; Max Operating Temperature: 155°C; Tolerance: 1%; Packaging: Tape and Reel; Resistor Type: Thick Film; Number of Terminations: 2; Termination: SMD/SMT; Max Power Dissipation: 250mW; Features: Moisture Resistant; Series: RC; Resistance Tolerance: 1%; Length: 3.2mm; Width: 1.6mm; Height: 0.55mm; Lead Free: Lead Free; Reach SVHC Compliant: Unknown; RoHS Compliant: Yes; ComponentLink1URL: https://datasheet.ciiva.com/2461/pyu-rc1206-51-rohs-l-4-2461489.pdf?src-supplier=Digi-Key; ComponentLink1Description: https://datasheet.ciiva.com/2461/pyu-rc1206-51-rohs-l-4-2461489.pdf?src-supplier=Digi-Key
footprint RE_1206
pins: 1, 2

## RES 4K7 0603
designator R?, comment value 4.7kR  (hidden comment: RC0603JR-074K7L)
SMD Chip Resistor, 4.7 kOhm, ± 5%, 100 mW, 0603 [1608 Metric], Thick Film, General Purpose; Manufacturer: Yageo; Voltage Rating (DC): 50V; Temperature Coefficient: 100ppm/°C; Power Rating: 100mW; Designed By: Ahmet Can; Supplier: Digi-Key; Supplier Part Number: 311-4.7KGRCT-ND; Manufacturer Part Number: RC0603JR-074K7L; RoHS: Yes; Category: Chip SMD Resistors; Stock: 7017381; Pricing: 1=0,1, 10=0,014, 50=0,0088, 100=0,0073, 500=0,00486, 1000=0,00415 (USD); Case/Package: 0603; Pins: 2; Case Code (Imperial): 0603; Case Code (Metric): 1608; Min Operating Temperature: -55°C; Max Operating Temperature: 155°C; Resistor Type: Thick Film; Tolerance: 5%; Packaging: Tape and Reel; Voltage Rating: 50V; Termination: SMD/SMT; Features: Moisture Resistant; Max Power Dissipation: 100mW; Number of Terminations: 2; Series: RC; Resistance Tolerance: 5%; Construction: Rectangular; Voltage Rating (AC): 50V; Length: 1.6mm; Width: 0.8mm; Depth: 0.8mm; Reach SVHC Compliant: No; Lead Free: Lead Free; RoHS Compliant: Yes; Military Standard: Not; ComponentLink1URL: https://datasheet.ciiva.com/46412/443971-46412858.pdf?src-supplier=Element14; ComponentLink1Description: https://datasheet.ciiva.com/46412/443971-46412858.pdf?src-supplier=Element14
footprint RE_0603
pins: 1, 2

## RES 4K7 1206
designator R?, comment value 4.7kR  (hidden comment: RC1206FR-074K7L)
SMD Chip Resistor, 4.7 kOhm, ± 1%, 250 mW, 1206 [3216 Metric], Thick Film, General Purpose; Manufacturer: Yageo; Voltage Rating (DC): 200V; Temperature Coefficient: 100ppm/°C; Power Rating: 250mW; Designed By: Ahmet Can; Supplier: Digi-Key; Supplier Part Number: 311-4.70KFRCT-ND; Manufacturer Part Number: RC1206FR-074K7L; RoHS: Yes; Category: Chip SMD Resistors; Stock: 2180352; Pricing: 1=0,1, 10=0,036, 50=0,0232, 100=0,0195, 500=0,01364, 1000=0,01187 (USD); Case/Package: 1206; Pins: 2; Case Code (Imperial): 1206; Case Code (Metric): 3216; Min Operating Temperature: -55°C; Max Operating Temperature: 155°C; Tolerance: 1%; Packaging: Tape and Reel; Resistor Type: Thick Film; Voltage Rating: 200V; Series: RC02H; Resistance Tolerance: 1%; Width: 1.6mm; Lead Free: Lead Free; Reach SVHC Compliant: Unknown; RoHS Compliant: Yes
footprint RE_1206
pins: 1, 2

## RES 10K 0402
designator R?, comment value 10kR  (hidden comment: RC0402JR-0710KL)
SMD Chip Resistor, 10 kOhm, ± 5%, 63 mW, 0402 [1005 Metric], Thick Film, General Purpose; Manufacturer: Yageo; Temperature Coefficient: 100ppm/°C; Power Rating: 62.5mW; Voltage Rating: 50V; Max Power Dissipation: 63mW; Designed By: Ahmet Can; Supplier: Digi-Key; Supplier Part Number: 311-10KJRCT-ND; Manufacturer Part Number: RC0402JR-0710KL; RoHS: Yes; Category: Chip SMD Resistors; Stock: 36586137; Pricing: 1=0,1, 10=0,018, 50=0,0098, 100=0,0079, 500=0,00502, 1000=0,00422, 5000=0,00292 (USD); Case/Package: 0402; Case Code (Metric): 1005; Case Code (Imperial): 0402; Min Operating Temperature: -55°C; Max Operating Temperature: 155°C; Tolerance: 5%; Packaging: Tape and Reel; Package Quantity: 1; Resistor Type: Thick Film; Number of Terminations: 2; Termination: SMD/SMT; Features: Moisture Resistant; Series: RC; Resistance Tolerance: 5%; Construction: Rectangular; Voltage Rating (AC): 50V; Length: 0.039inch; Width: 0.02inch; Height: 0.016inch; Depth: 0.5mm; RoHS Compliant: Yes; Military Standard: Not; Lead Free: Lead Free; Reach SVHC Compliant: Unknown; ComponentLink1URL: https://datasheet.ciiva.com/2452/pyu-r-int-thick-7-2452627.pdf?src-supplier=Digi-Key; ComponentLink1Description: https://datasheet.ciiva.com/2452/pyu-r-int-thick-7-2452627.pdf?src-supplier=Digi-Key; ComponentLink2URL: https://datasheet.ciiva.com/2452/pyu-r-int-thick-7-2452628.pdf?src-supplier=Digi-Key; ComponentLink2Description: https://datasheet.ciiva.com/2452/pyu-r-int-thick-7-2452628.pdf?src-supplier=Digi-Key; ComponentLink3URL: https://datasheet.ciiva.com/2452/pyu-r-int-thick-7-2452626.pdf?src-supplier=Digi-Key; ComponentLink3Description: https://datasheet.ciiva.com/2452/pyu-r-int-thick-7-2452626.pdf?src-supplier=Digi-Key; ComponentLink4URL: https://datasheet.ciiva.com/12669/pyu-rc0402-51-rohs-l-6-r-12669687.pdf?src-supplier=Mouser; ComponentLink4Description: https://datasheet.ciiva.com/12669/pyu-rc0402-51-rohs-l-6-r-12669687.pdf?src-supplier=Mouser; ComponentLink5URL: https://datasheet.ciiva.com/7850/1018594-7850136.pdf?src-supplier=Element14; ComponentLink5Description: https://datasheet.ciiva.com/7850/1018594-7850136.pdf?src-supplier=Element14; ComponentLink6URL: https://datasheet.ciiva.com/7850/1018594-7850137.pdf?src-supplier=Element14; ComponentLink6Description: https://datasheet.ciiva.com/7850/1018594-7850137.pdf?src-supplier=Element14
footprint RE_0402
pins: 1, 2

## RES 10K 1206
designator R?, comment RC1206FR-0710KL  value 10kR
SMD Chip Resistor, 10 kOhm, ± 1%, 250 mW, 1206 [3216 Metric], Thick Film, General Purpose; Manufacturer: Yageo; Temperature Coefficient: 100ppm/°C; Power Rating: 250mW; Voltage Rating: 200V; Designed By: Ahmet Can; Supplier: Digi-Key; Supplier Part Number: 311-10.0KFRCT-ND; Manufacturer Part Number: RC1206FR-0710KL; RoHS: Yes; Category: Chip SMD Resistors; Stock: 3977916; Pricing: 1=0,1, 10=0,036, 50=0,0232, 100=0,0195, 500=0,01364, 1000=0,01187 (USD); Case/Package: 1206; Case Code (Imperial): 1206; Case Code (Metric): 3216; Min Operating Temperature: -55°C; Max Operating Temperature: 155°C; Tolerance: 1%; Packaging: Tape and Reel; Resistor Type: Thick Film; Package Quantity: 5000; Termination: SMD/SMT; Features: Moisture Resistant; Series: RC; Max Power Dissipation: 250mW; Number of Terminations: 2; Resistance Tolerance: 1%; Voltage Rating (AC): 200V; Length: 3.1mm; Width: 1.6mm; Height: 0.55mm; Lead Free: Lead Free; Reach SVHC Compliant: Unknown; RoHS Compliant: Yes; ComponentLink1URL: https://datasheet.ciiva.com/46445/444357-46445703.pdf?src-supplier=Element14; ComponentLink1Description: https://datasheet.ciiva.com/46445/444357-46445703.pdf?src-supplier=Element14; ComponentLink2URL: https://datasheet.ciiva.com/7857/1692832-7857244.pdf?src-supplier=Element14; ComponentLink2Description: https://datasheet.ciiva.com/7857/1692832-7857244.pdf?src-supplier=Element14; ComponentLink3URL: https://datasheet.ciiva.com/7857/1692832-7857245.pdf?src-supplier=Element14; ComponentLink3Description: https://datasheet.ciiva.com/7857/1692832-7857245.pdf?src-supplier=Element14
footprint RE_1206
pins: 1, 2

## RES 15 0603
designator R?, comment value 15R  (hidden comment: RC0603JR-0715RL)
SMD Chip Resistor, 15 Ohm, ± 5%, 100 mW, 0603 [1608 Metric], Thick Film, General Purpose; Manufacturer: Yageo; Temperature Coefficient: ±100ppm/°C; Designed By: Ahmet Can; Supplier: Digi-Key; Supplier Part Number: 311-15GRCT-ND; Manufacturer Part Number: RC0603JR-0715RL; RoHS: Yes; Category: Chip SMD Resistors; Stock: 973740; Pricing: 1=0,1, 10=0,014, 50=0,0088, 100=0,0073, 500=0,00486, 1000=0,00415 (USD); ComponentLink1URL: https://datasheet.ciiva.com/7746/443971-7746445.pdf?src-supplier=Element14; ComponentLink1Description: https://datasheet.ciiva.com/7746/443971-7746445.pdf?src-supplier=Element14; ComponentLink2URL: https://datasheet.ciiva.com/7746/443971-7746446.pdf?src-supplier=Element14; ComponentLink2Description: https://datasheet.ciiva.com/7746/443971-7746446.pdf?src-supplier=Element14; ComponentLink3URL: https://datasheet.ciiva.com/2453/pyu-r-int-thick-7-2453085.pdf?src-supplier=Digi-Key; ComponentLink3Description: https://datasheet.ciiva.com/2453/pyu-r-int-thick-7-2453085.pdf?src-supplier=Digi-Key; ComponentLink4URL: https://datasheet.ciiva.com/2453/pyu-r-int-thick-7-2453086.pdf?src-supplier=Digi-Key; ComponentLink4Description: https://datasheet.ciiva.com/2453/pyu-r-int-thick-7-2453086.pdf?src-supplier=Digi-Key; ComponentLink5URL: https://datasheet.ciiva.com/2453/pyu-r-int-thick-7-2453087.pdf?src-supplier=Digi-Key; ComponentLink5Description: https://datasheet.ciiva.com/2453/pyu-r-int-thick-7-2453087.pdf?src-supplier=Digi-Key; Tolerance: ± 5%; Composition: Thick Film; Features: Moisture Resistant; Case/Package: 0603
footprint RE_0603
pins: 1, 2

## RES 43K 0603
designator R?, comment value 43kR  (hidden comment: RC0603JR-0743KL)
Res Thick Film 0603 43K Ohm 5% 0.1W(1/10W) ±100ppm/°C Pad SMD T/R; Manufacturer: Yageo; Designed By: Ahmet Can; Supplier: Digi-Key; Supplier Part Number: 311-43KGRCT-ND; Manufacturer Part Number: RC0603JR-0743KL; RoHS: Yes; Category: Chip SMD Resistors; Stock: 290453; Pricing: 1=0,1, 10=0,014, 50=0,0088, 100=0,0073, 500=0,00486, 1000=0,00415 (USD); ComponentLink1URL: https://datasheet.ciiva.com/2453/pyu-r-int-thick-7-2453052.pdf?src-supplier=Digi-Key; ComponentLink1Description: https://datasheet.ciiva.com/2453/pyu-r-int-thick-7-2453052.pdf?src-supplier=Digi-Key; ComponentLink2URL: https://datasheet.ciiva.com/2453/pyu-r-int-thick-7-2453053.pdf?src-supplier=Digi-Key; ComponentLink2Description: https://datasheet.ciiva.com/2453/pyu-r-int-thick-7-2453053.pdf?src-supplier=Digi-Key; ComponentLink3URL: https://datasheet.ciiva.com/2453/pyu-r-int-thick-7-2453054.pdf?src-supplier=Digi-Key; ComponentLink3Description: https://datasheet.ciiva.com/2453/pyu-r-int-thick-7-2453054.pdf?src-supplier=Digi-Key; Tolerance: ±5%; Composition: Thick Film; Features: Moisture Resistant; Temperature Coefficient: ±100ppm/°C; Max Operating Temperature: 155°C; Min Operating Temperature: -55°C; Case/Package: 0603
footprint RE_0603
pins: 1, 2

## RES 100 0603
designator R?, comment value 100R  (hidden comment: RC0603JR-07100RL)
Res Thick Film 0603 100 Ohm 5% 1/10W ±100ppm/°C Molded SMD SMD Paper T/R; Manufacturer: Yageo; Voltage Rating (DC): 50V; Power Rating: 100mW; Designed By: Ahmet Can; Supplier: Digi-Key; Supplier Part Number: 311-100GRCT-ND; Manufacturer Part Number: RC0603JR-07100RL; RoHS: Yes; Category: Chip SMD Resistors; Stock: 909469; Pricing: 1=0,1, 10=0,014, 50=0,0088, 100=0,0073, 500=0,00486, 1000=0,00415 (USD); Case/Package: 0603; Pins: 2; Contact Plating: Tin,Matte; Case Code (Imperial): 0603; Case Code (Metric): 1608; Min Operating Temperature: -55°C; Max Operating Temperature: 155°C; Tolerance: 5%; Temperature Coefficient: 100ppm/°C; Resistor Type: Thick Film; Packaging: Tape and Reel; Voltage Rating: 50V; Termination: SMD/SMT; Features: Moisture Resistant; Series: RC; Max Power Dissipation: 100mW; Number of Terminations: 2; Construction: Rectangular; Resistance Tolerance: 5%; Length: 1.6mm; Width: 0.8mm; Depth: 0.8mm; Lead Free: Lead Free; Reach SVHC Compliant: Unknown; Military Standard: Not; RoHS Compliant: Yes; ComponentLink1URL: https://datasheet.ciiva.com/7746/443971-7746425.pdf?src-supplier=Element14; ComponentLink1Description: https://datasheet.ciiva.com/7746/443971-7746425.pdf?src-supplier=Element14; ComponentLink2URL: https://datasheet.ciiva.com/7746/443971-7746426.pdf?src-supplier=Element14; ComponentLink2Description: https://datasheet.ciiva.com/7746/443971-7746426.pdf?src-supplier=Element14; ComponentLink3URL: https://datasheet.ciiva.com/8883/pyu-rc0603-51-rohs-l-4-8883047.pdf?src-supplier=Avnet; ComponentLink3Description: https://datasheet.ciiva.com/8883/pyu-rc0603-51-rohs-l-4-8883047.pdf?src-supplier=Avnet; ComponentLink4URL: https://datasheet.ciiva.com/15189/getdatasheetpartid-325207-15189846.pdf?src-supplier=Verical; ComponentLink4Description: https://datasheet.ciiva.com/15189/getdatasheetpartid-325207-15189846.pdf?src-supplier=Verical
footprint RE_0603
pins: 1, 2

## RES 220K 0603
designator R?, comment value 220kR  (hidden comment: RC0603JR-07220KL)
SMD Chip Resistor, 220 kOhm, ± 5%, 100 mW, 0603 [1608 Metric], Thick Film, General Purpose; Manufacturer: Yageo; Voltage Rating (AC): 50V; Temperature Coefficient: ±100ppm/°C; Designed By: Ahmet Can; Supplier: Digi-Key; Supplier Part Number: 311-220KGRCT-ND; Manufacturer Part Number: RC0603JR-07220KL; RoHS: Yes; Category: Chip SMD Resistors; Stock: 938140; Pricing: 1=0,1, 10=0,014, 50=0,0088, 100=0,0073, 500=0,00486, 1000=0,00415 (USD); ComponentLink1URL: https://datasheet.ciiva.com/2452/pyu-r-int-thick-7-2452923.pdf?src-supplier=Digi-Key; ComponentLink1Description: https://datasheet.ciiva.com/2452/pyu-r-int-thick-7-2452923.pdf?src-supplier=Digi-Key; ComponentLink2URL: https://datasheet.ciiva.com/2452/pyu-r-int-thick-7-2452924.pdf?src-supplier=Digi-Key; ComponentLink2Description: https://datasheet.ciiva.com/2452/pyu-r-int-thick-7-2452924.pdf?src-supplier=Digi-Key; ComponentLink3URL: https://datasheet.ciiva.com/2452/pyu-r-int-thick-7-2452925.pdf?src-supplier=Digi-Key; ComponentLink3Description: https://datasheet.ciiva.com/2452/pyu-r-int-thick-7-2452925.pdf?src-supplier=Digi-Key; Case/Package: 0603; Max Operating Temperature: 155°C; Min Operating Temperature: -55°C; Features: Moisture Resistant; Composition: Thick Film; Tolerance: ±5%
footprint RE_0603
pins: 1, 2